# Altium footprint library myPcbLib.PcbLib: 124 footprints (part 2 of 8)
Each footprint in its own frame and in the unit in brackets; x right, y up, seen from the top. Pads: shape width x height; smd on the part's side, far side on the other; paste and mask are expansions set on the pad; w line width, h text height; cw(c..) or ccw(c..) is an arc to the next point about the centre after c.
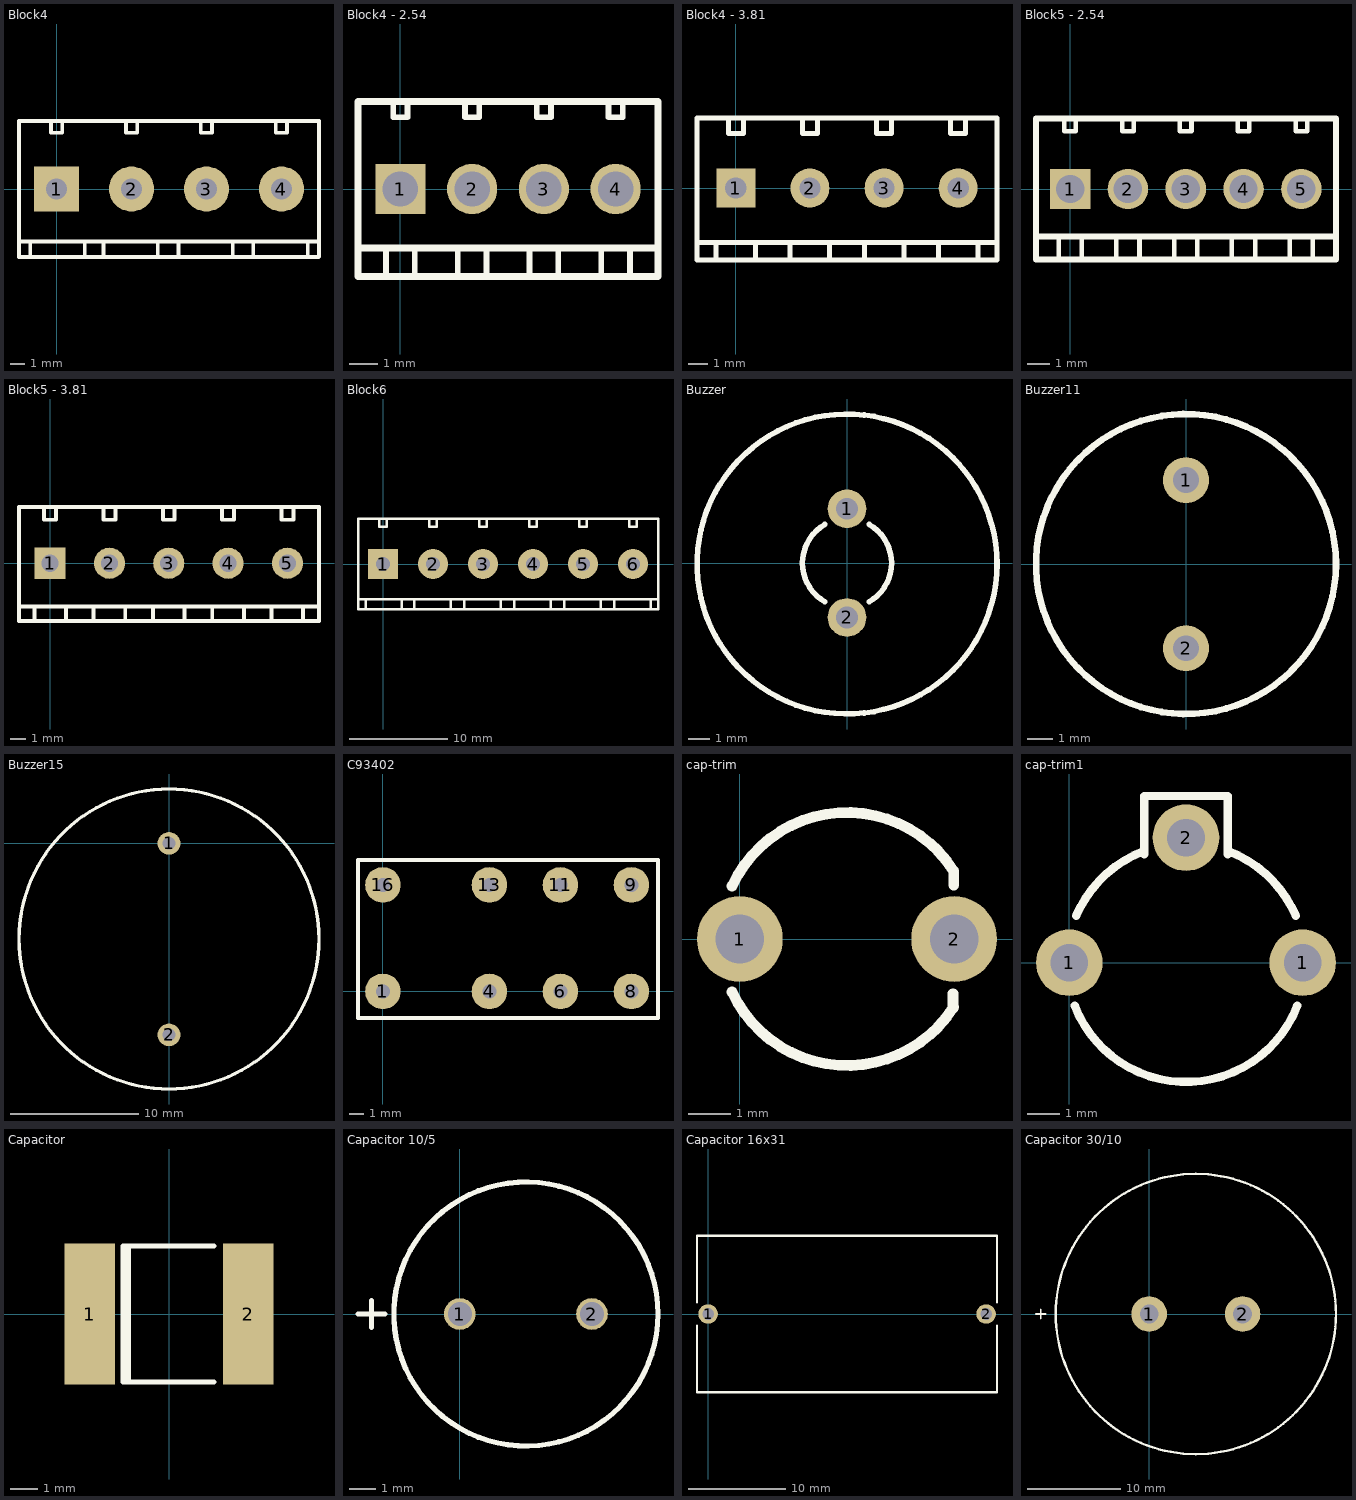
[diagram p1: the footprints below, top view; thin cyan lines are the x and y axes]

## Block4 [mil] "5.08mm"
pads (4):
  rect 120x120 hole 57.09: 1(0,0)
  round 120 hole 57.09: 2(200,0) 3(400,0) 4(600,0)
Top Overlay:
  lines w10: -100,-140 700,-140 ; -70,-180 -70,-140 ; -15,180 -15,150 15,150 15,180 ; 75,-180 75,-140 ; 125,-180 125,-140 ; 185,180 185,150 215,150 215,180 ; 270,-180 270,-140 ; 325,-180 325,-140 ; 385,180 385,150 415,150 415,180 ; 470,-180 470,-140 ; 525,-180 525,-140 ; 585,180 585,150 615,150 615,180 ; 670,-180 670,-140 ; -100,-181.1 -100,181.1 700,181.1 700,-180 698.9,-181.1 -100,-181.1

## Block4 - 2.54 [mil] "2.54mm"
pads (4):
  rect 70x70 hole 49.21: 1(0,0)
  round 70 hole 49.21: 2(100,0) 3(200,0) 4(300,0)
Top Overlay:
  lines w7.87: -20,-120 -20,-85 ; -10,120 -10,100 10,100 10,120 ; 20,-120 20,-85 ; 80,-120 80,-85 ; 90,120 90,100 110,100 110,120 ; 120,-120 120,-85 ; 180,-120 180,-85 ; 190,120 190,100 210,100 210,120 ; 220,-120 220,-85 ; 280,-120 280,-85 ; 290,120 290,100 310,100 310,120 ; 320,-120 320,-85
  lines w10: -59.06,-82.05 358.27,-82.05 ; 359,122.05 -59.06,122.05 -59.06,-122.05 359.06,-122.05 359.06,122.05

## Block4 - 3.81 [mm] "3.81mm"
pads (4):
  rect 2x2 hole 1.1: 1(0,0)
  round 2 hole 1.1: 2(3.81,0) 3(7.62,0) 4(11.43,0)
Top Overlay:
  lines w0.254: -2,-2.794 13.43,-2.794 ; -2,3.556 -2,-3.7 13.43,-3.7 13.43,3.556 ; -2,3.6 13.43,3.6 ; -1.016,-3.7 -1.016,-2.794 ; -0.381,3.556 -0.381,2.794 0.381,2.794 0.381,3.556 ; 1.016,-3.7 1.016,-2.794 ; 2.794,-3.7 2.794,-2.794 ; 3.429,3.556 3.429,2.794 4.191,2.794 4.191,3.556 ; 4.826,-3.7 4.826,-2.794 ; 6.604,-3.7 6.604,-2.794 ; 7.239,3.556 7.239,2.794 8.001,2.794 8.001,3.556 ; 8.636,-3.7 8.636,-2.794 ; 10.414,-3.7 10.414,-2.794 ; 11.049,3.556 11.049,2.794 11.811,2.794 11.811,3.556 ; 12.446,-3.7 12.446,-2.794

## Block5 - 2.54 [mil] "2.54mm"
pads (5):
  rect 70x70 hole 49.21: 1(0,0)
  round 70 hole 49.21: 2(100,0) 3(200,0) 4(300,0) 5(400,0)
Top Overlay:
  lines w7.87: -20,-120 -20,-85 ; -10,120 -10,100 10,100 10,120 ; 20,-120 20,-85 ; 80,-120 80,-85 ; 90,120 90,100 110,100 110,120 ; 120,-120 120,-85 ; 180,-120 180,-85 ; 190,120 190,100 210,100 210,120 ; 220,-120 220,-85 ; 280,-120 280,-85 ; 290,120 290,100 310,100 310,120 ; 320,-120 320,-85 ; 380,-120 380,-85 ; 390,120 390,100 410,100 410,120 ; 420,-120 420,-85
  lines w10: -59.06,-82.05 458.27,-82.05 ; -59.06,-122.05 460,-122.05 460,122.05 -59.06,122.05 -59.06,-122.05

## Block5 - 3.81 [mm] "3.81mm"
pads (5):
  rect 2x2 hole 1.1: 1(0,0)
  round 2 hole 1.1: 2(3.81,0) 3(7.62,0) 4(11.43,0) 5(15.24,0)
Top Overlay:
  lines w0.254: -2,-2.794 17.272,-2.794 ; -2,3.556 -2,-3.7 17.272,-3.7 17.272,3.6 -2,3.6 ; -1.016,-3.7 -1.016,-2.794 ; -0.381,3.556 -0.381,2.794 0.381,2.794 0.381,3.556 ; 1.016,-3.7 1.016,-2.794 ; 2.794,-3.7 2.794,-2.794 ; 3.429,3.556 3.429,2.794 4.191,2.794 4.191,3.556 ; 4.826,-3.7 4.826,-2.794 ; 6.604,-3.7 6.604,-2.794 ; 7.239,3.556 7.239,2.794 8.001,2.794 8.001,3.556 ; 8.636,-3.7 8.636,-2.794 ; 10.414,-3.7 10.414,-2.794 ; 11.049,3.556 11.049,2.794 11.811,2.794 11.811,3.556 ; 12.446,-3.7 12.446,-2.794 ; 14.224,-3.7 14.224,-2.794 ; 14.859,3.556 14.859,2.794 15.621,2.794 15.621,3.556 ; 16.256,-3.7 16.256,-2.794

## Block6 [mil] "5.08mm"
pads (6):
  rect 120x120 hole 57.09: 1(0,0)
  round 120 hole 57.09: 2(200,0) 3(400,0) 4(600,0) 5(800,0) 6(1000,0)
Top Overlay:
  lines w10: -100,-140 1100,-140 ; -70,-180 -70,-140 ; -15,180 -15,150 15,150 15,180 ; 75,-180 75,-140 ; 125,-180 125,-140 ; 185,180 185,150 215,150 215,180 ; 270,-180 270,-140 ; 325,-180 325,-140 ; 385,180 385,150 415,150 415,180 ; 470,-180 470,-140 ; 525,-180 525,-140 ; 585,180 585,150 615,150 615,180 ; 670,-180 670,-140 ; 725,-180 725,-140 ; 785,180 785,150 815,150 815,180 ; 870,-180 870,-140 ; 925,-180 925,-140 ; 985,180 985,150 1015,150 1015,180 ; 1070,-180 1070,-140 ; 1100,-181.1 -100,-181.1 -100,181.1 1100,181.1 1100,-180

## Buzzer [mm]
pads (2):
  round 1.778 hole 1: 1(0,2.5) 2(0,-2.5)
Top Overlay:
  circle w0.254: c0,-0.04 r6.9
  lines w0.254: -1.016,-1.778 cw(c0,0) -1.016,1.778 ; 1.016,-1.778 ccw(c0,0) 1.016,1.778

## Buzzer11 [mm]
pads (2):
  round 1.778 hole 1: 1(0,3.25) 2(0,-3.25)
Top Overlay:
  circle w0.254: c0,0.007 r5.8
3D body: height 9.5, standoff 0, extent -5.781,-5.866 5.773,5.711

## Buzzer15 [mil]
pads (2):
  round 70 hole 39.37: 1(0,0) 2(0,-590.55)
Top Overlay:
  circle w10: c0,-295 r462.6
3D body: height 374.02, standoff 0, extent -460,-760 461.55,163.37

## C93402 [mm] "C93402"
pads (8):
  round 2.54 hole 1: 1(0,0) 4(7.62,0) 6(12.7,0) 8(17.78,0) 9(17.78,7.62) 11(12.7,7.62) 13(7.62,7.62) 16(0,7.62)
Top Overlay:
  lines w0.254: -1.778,-1.905 -1.778,9.398 19.685,9.398 19.685,-1.905 -1.778,-1.905

## cap-trim [mil]
pads (2):
  round 80 hole 45.28: 1(0,0) 2(200,0)
Top Overlay:
  lines w10: -7.24,-49.5 ccw(c100,0) 199.65,-63.41 ; -7.24,49.5 cw(c100,0) 199.65,63.41 199.65,50.35 ; 198.93,-64.52 198.93,-51.07

## cap-trim1 [mil]
pads (3):
  round 80 hole 45.28: 1(0,0) 1(280,0) 2(140,150)
Top Overlay:
  lines w10: 6.37,-51.4 ccw(c140,0) 273.63,-51.4 ; 8.4,56.4 cw(c140,0) 88.6,133.63 ; 90,130 90,200 190,200 190,130 ; 191.4,133.63 cw(c140,0) 271.6,56.4

## Capacitor [mm] "Chip Capacitor;"
height 1.1
pads (2):
  rect 1.85x5.2 smd: 1(-2.913,0) 2(2.913,0)
Top Overlay:
  lines w0.2: -1.498,-2.5 -1.498,2.5 ; 1.643,-2.5 -1.689,-2.5 -1.689,2.5 1.643,2.5

## Capacitor 10/5 [mm]
pads (2):
  round 1.2 hole 0.9: 1(0,0) 2(5,0)
Top Overlay:
  circle w0.2: c2.5,0 r5
  lines w0.2: -3.858,0 -2.842,0 ; -3.35,-0.508 -3.35,0.508

## Capacitor 16x31 [mm]
pads (2):
  round 2 hole 1.2: 1(0,0) 2(28.6,0)
Top Overlay:
  lines w0.254: -1.143,-1.219 -1.143,-8.052 29.718,-8.052 29.718,-1.219 ; -1.143,1.219 -1.143,8.052 29.718,8.052 29.718,1.219

## Capacitor 30/10 [mm] "Capacitor, lead 10mm, D=30"
pads (2):
  round 3.81 hole 2: 1(0,0) 2(10,0)
Top Overlay:
  circle w0.254: c5,0 r15
  lines w0.2: -12.108,0 -11.092,0 ; -11.6,-0.508 -11.6,0.508
3D body: height 30, standoff 0, extent -9.802,-14.97 20.08,14.971